# EAGLE library part 79L*-SO (library ic)
79Lxx: Fixed negative voltage regulator in SO-08 SMD package Voltage can be selected with change technology
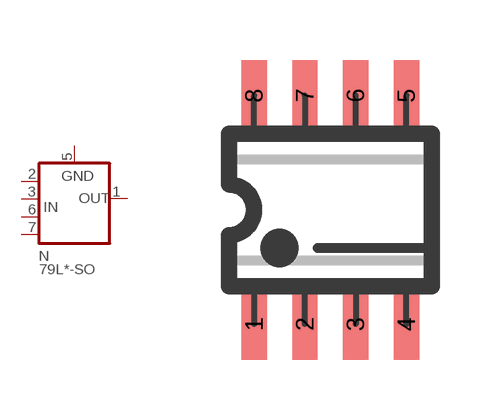
[diagram p135: symbol with the pads of SO08; footprint SO08]

Designator prefix N

## 79L05-SO, 79L06-SO, 79L08-SO, 79L09-SO, 79L12-SO, 79L15-SO, 79L18-SO, 79L24-SO  [SO08]
1  OUT  pwr
2  IN  pwr
3  IN  pwr
5  GND  pwr
6  IN  pwr
7  IN  pwr

## Footprint SO08 (pad centres in mm)
SO-8, SMD SOIC IC package, 8 pins
smd 0.635 x 1.778: 1 -1.905,-2.857; 2 -0.635,-2.857; 3 0.635,-2.857; 4 1.905,-2.857; 5 1.905,2.857; 6 0.635,2.857; 7 -0.635,2.857; 8 -1.905,2.857